# EAGLE library part ENX10 (library customy)
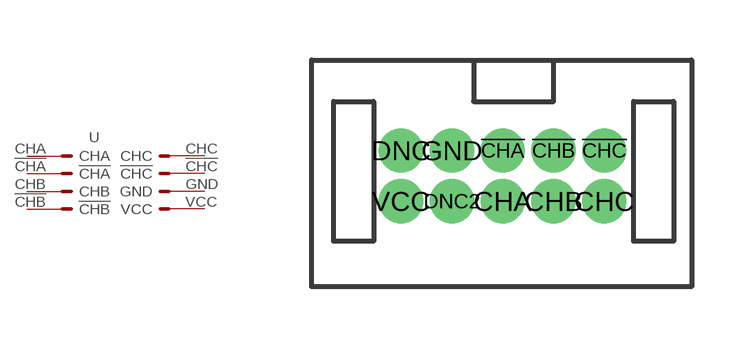
[diagram p9: symbol with the pads of SIL25; footprint SIL25]

Designator prefix -

## ENX10  [SIL25]
!CHA  !CHA
!CHB  !CHB
!CHC  !CHC
CHA  CHA
CHB  CHB
CHC  CHC
GND  GND
VCC  VCC

## Footprint SIL25 (pad centres in mm)
Single In Line 25 Grid 1.27mm Source: http://de.nanotec.com .. s094-095_leistungsendst_IMT901.pdf
drill 0.6 pad 1.016: !CHA -1.27,0.27; !CHB 0,0.27; !CHC 1.27,0.27; CHA -1.27,-1; CHB 0,-1; CHC 1.27,-1; DNC -3.81,0.27; DNC2 -2.54,-1; GND -2.54,0.27; VCC -3.81,-1